# EAGLE library part TDA8425 (library my_electronics_library)
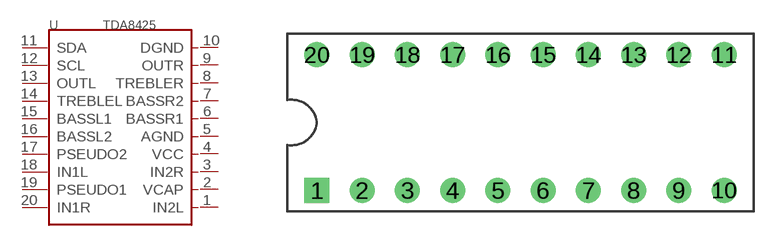
[diagram p0: symbol with the pads of DIP20-2.54-26.2X7.62MM; footprint DIP20-2.54-26.2X7.62MM]

Designator prefix -

## TDA8425  [DIP20-2.54-26.2X7.62MM]
1  IN2L
2  VCAP
3  IN2R
4  VCC
5  AGND
6  BASSR1
7  BASSR2
8  TREBLER
9  OUTR
10  DGND
11  SDA
12  SCL
13  OUTL
14  TREBLEL
15  BASSL1
16  BASSL2
17  PSEUDO2
18  IN1L
19  PSEUDO1
20  IN1R

## Footprint DIP20-2.54-26.2X7.62MM (pad centres in mm)
drill 0.9 pad 1.4 square: 1 -11.43,-3.81
drill 0.9 pad 1.4: 2 -8.89,-3.81; 3 -6.35,-3.81; 4 -3.81,-3.81; 5 -1.27,-3.81; 6 1.27,-3.81; 7 3.81,-3.81; 8 6.35,-3.81; 9 8.89,-3.81; 10 11.43,-3.81; 11 11.43,3.81; 12 8.89,3.81; 13 6.35,3.81; 14 3.81,3.81; 15 1.27,3.81; 16 -1.27,3.81; 17 -3.81,3.81; 18 -6.35,3.81; 19 -8.89,3.81; 20 -11.43,3.81